# Altium schematic symbol library 单灯控制器.SCHLIB: 39 symbols
Pins are listed as number, name and electrical type; pins without a type are passive.

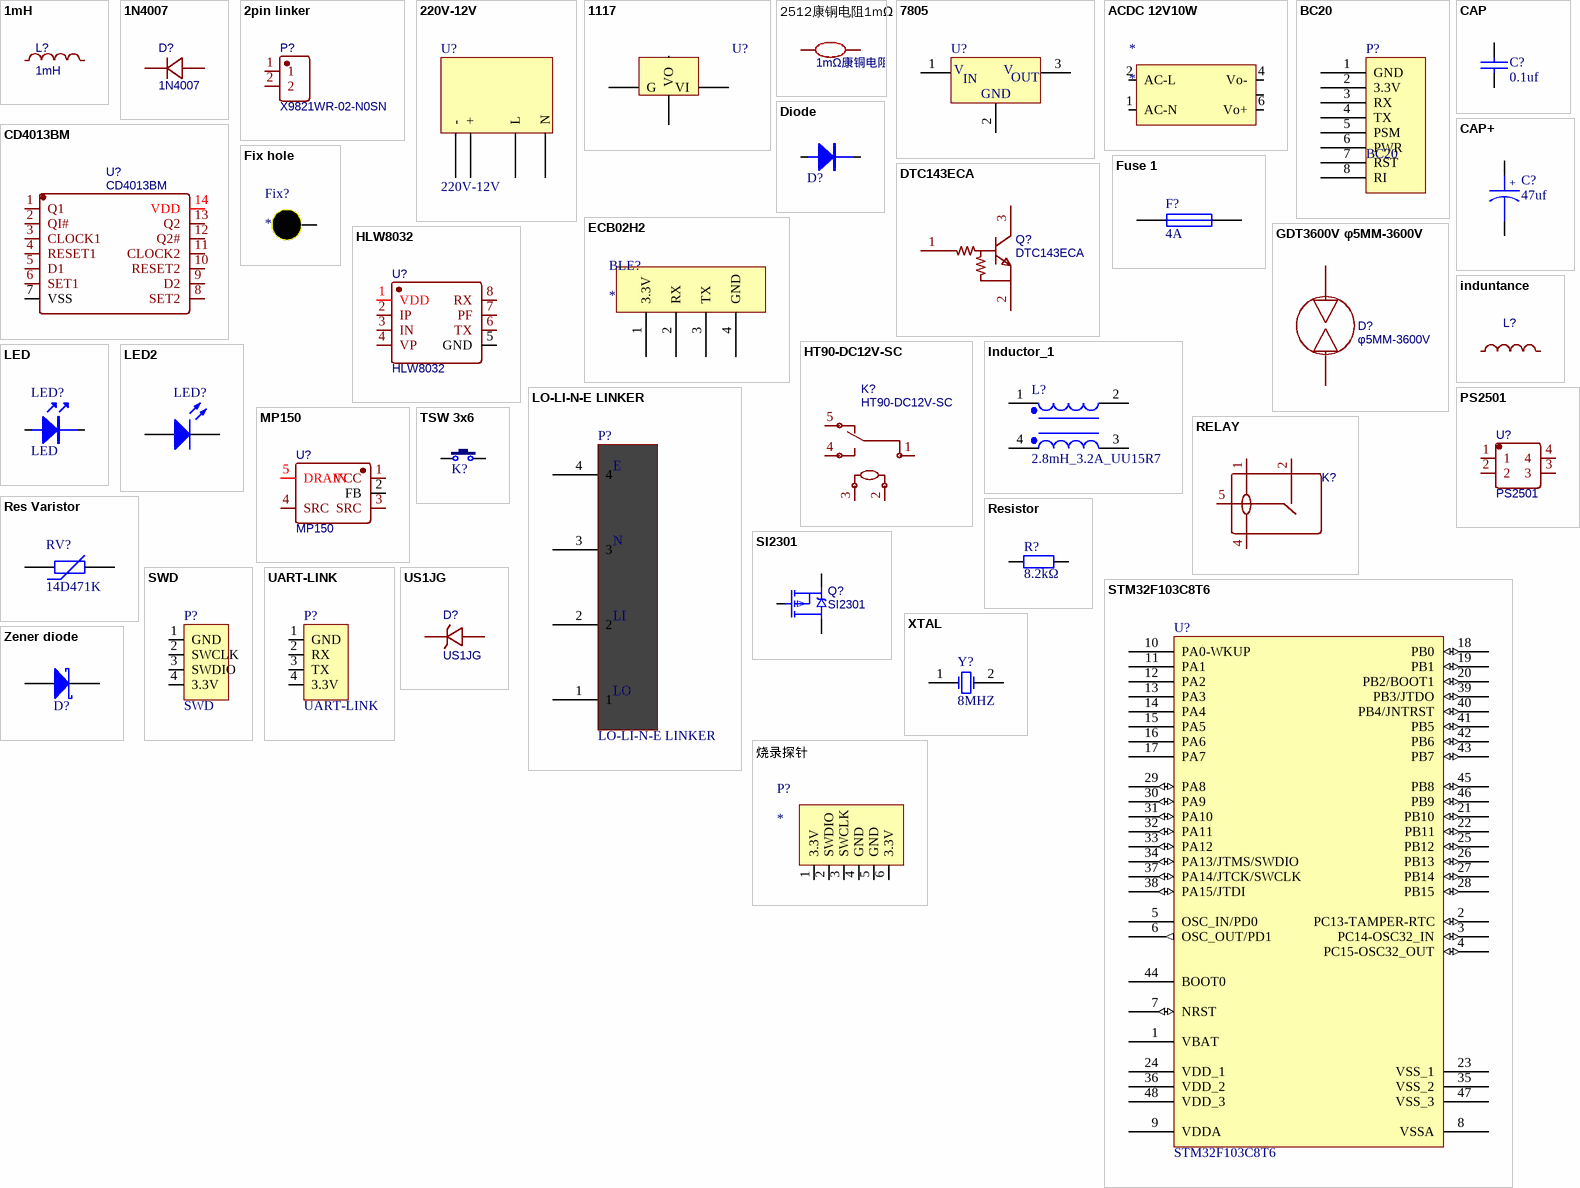
[diagram p0: symbols 1mH to 烧录探针]

## 1mH
designator L?
BOM_Manufacturer: FH; BOM_Manufacturer Part: VLU0810-102K; nameAlias: Inductance; BOM_Supplier: LCSC; BOM_Supplier Part: C72626; BOM_JLCPCB Part Class: Extended Part; spicePre: L; spiceSymbolName: VLU0810-102K
footprint 1MH 360MA
footprint 1MH色环电感
footprint 1MH 150MA
footprint cd75 1mh电感
pins: 1, 2

## 1N4007
designator D?
BOM_Manufacturer: TWGMC; Contributor: LCSC; BOM_Supplier: LCSC; BOM_Supplier Part: C727081; BOM_Manufacturer Part: 1N4007; BOM_JLCPCB Part Class: Extended Part; spicePre: D; spiceSymbolName: 1N4007_C727081
footprint 1N4007
pins: 1 K, 2 A

## 2pin linker
designator P?, comment X9821WR-02-N0SN
BOM_Manufacturer: XKB Enterprise; Contributor: LCSC; BOM_Supplier: LCSC; BOM_Supplier Part: C519002; BOM_Manufacturer Part: X9821WR-02-N0SN; BOM_JLCPCB Part Class: Extended Part; spicePre: C; spiceSymbolName: X9821WR-02-N0SN
footprint PWM输出底座
pins: 1, 2

## 220V-12V
designator U?
footprint AC-DC12V-5w
pins: 1 -, 2 +, 3 L, 4 N

## 1117
designator U?  (value not drawn)
三端稳压器1117
footprint SOT223
pins: 1 G, 2 VO, 3 VI, 4 G

## 2512康铜电阻1mΩ
designator RK?, comment 1mΩ康铜电阻
BOM_Manufacturer: YAGEO; BOM_Manufacturer Part: PA2512FKE7T0R001E; Contributor: LCSC; BOM_Supplier: LCSC; BOM_Supplier Part: C728297; spicePre: R; spiceSymbolName: PA2512FKE7T0R001E
footprint R2512 - 康铜
pins: 1, 2

## 7805
designator U?  (value not drawn)
三端稳压器7805
footprint TO-252
pins: 1 VIN, 2 GND, 3 VOUT
text: V; IN; OUT

## ACDC 12V10W
designator *
footprint AC-DC 12V10W
pins: 1 AC-N, 2 AC-L, 4 Vo-, 5, 6 Vo+

## BC20
designator P?
BC20单灯控制器特供版
footprint NB BC20
pins: 1 GND, 2 3.3V, 3 RX, 4 TX, 5 PSM, 6 PWR, 7 RST, 8 RI

## CAP
designator C?, comment value 0.1uf  (hidden comment: Capacitor)
footprint 0805C
footprint 0603C
footprint 1206C
footprint 0.22uf安规电容CAP-TH_L18.0-W6.0-P15.00-D1.2
footprint X2 安规电容 22nf
footprint 4.7NF直插瓷片电容
footprint CAP-TH_L13.0-W6.0-P10.0-D0.6 (0.1UF安规电容X2)
pins: 1, 2

## CAP+
designator C?, comment value 47uf  (hidden comment: Capacitor)
footprint RB.1/.2
footprint RB.2/.4
footprint RB.3/.6
footprint RB.4/.8
footprint RB.1/.3
footprint CAP-TH_BD5.0-P2.00-D0.8-FD (10uf 25v)
footprint CAP-TH_BD8.0-P3.50-D0.6-FD (470uf 10V)
footprint 100uf6.3v钽电容 - duplicate
footprint 10uf 10v钽电容CAP-SMD_L3.2-W1.6
footprint CAP-TH_BD5.0-P2.00-D0.8-FD - duplicate (100uf 10v 电解电容)
pins: 1, 2
text: +

## CD4013BM
designator U?
BOM_Manufacturer: Texas Instruments; Contributor: LCSC; BOM_Supplier: LCSC; BOM_Supplier Part: C347580; BOM_Manufacturer Part: CD4013BM; BOM_JLCPCB Part Class: Extended Part; spicePre: U; spiceSymbolName: CD4013BM
footprint CD4013 (双路D触发器)
pins: 1 Q1, 2 QI#, 3 CLOCK1, 4 RESET1, 5 D1, 6 SET1, 7 VSS, 8 SET2, 9 D2, 10 RESET2, 11 CLOCK2, 12 Q2#, 13 Q2, 14 VDD

## Diode
designator D?
footprint DO-214AC(SMA)
pins: 1, 2

## DTC143ECA
designator Q?
BOM_Manufacturer: CJ江苏长电; Contributor: mengruisheng; spicePre: Q; spiceSymbolName: DTC143ECA; BOM_Manufacturer Part: DTC143ECA; BOM_Supplier: LCSC; BOM_Supplier Part: C13871
footprint SOT-23
pins: 1 B, 2 E, 3 C

## ECB02H2
designator BLE?
footprint BLE-ECB02H2
pins: 1 3.3V, 2 RX, 3 TX, 4 GND

## Fix hole
designator Fix?
footprint hole 3.5mm (3.5mm限位孔)
pins: 1

## Fuse 1
designator F?, comment 4A
Fuse; Published: 8-Jun-2000; LatestRevisionDate: 17-Jul-2002; LatestRevisionNote: Re-released for DXP Platform.; PackageReference: PIN-W2/E2.8; Publisher: Altium Limited; PackageDescription: Thru-Hole; 2 Leads
simulation model FUSE (Spice Subcircuit)
footprint FUSE-T6.3A 250V
pins: 1, 2

## GDT3600V φ5MM-3600V
designator D?, comment φ5MM-3600V
BOM_Manufacturer: SANTE; Contributor: LCSC; BOM_Supplier: LCSC; BOM_Supplier Part: C476575; BOM_Manufacturer Part: φ5MM-3600V; BOM_JLCPCB Part Class: Extended Part; spicePre: D; spiceSymbolName: φ5MM-3600V
footprint GDT3600V DIO-DT-TH_BD5.5-L6.0-P10.00-D1.2 (气体放电管)
pins: 1, 2

## HLW8032
designator U?
BOM_Manufacturer: HILIWI; BOM_Supplier: LCSC; BOM_Manufacturer Part: HLW8032; BOM_Supplier Part: C128023; BOM_JLCPCB Part Class: Extended Part; spicePre: U; spiceSymbolName: HLW8032
footprint SOP8_150
pins: 1 VDD, 2 IP, 3 IN, 4 VP, 5 GND, 6 TX, 7 PF, 8 RX

## HT90-DC12V-SC
designator K?
BOM_Manufacturer: HTV; Contributor: LCSC; BOM_Supplier: LCSC; BOM_Supplier Part: C125678; BOM_Manufacturer Part: HT90-DC12V-SC; BOM_JLCPCB Part Class: Extended Part; spicePre: K; spiceSymbolName: HT90-DC12V-SC
footprint RELAY-TH_HT90-DCX-XXCXX
pins: 1, 2, 3, 4, 5

## Inductor_1
designator L?, comment 2.8mH_3.2A_UU15R7
Value: 10mH; Published: 24-Mar-1999; LatestRevisionDate: 17-Jul-2002; LatestRevisionNote: Re-released for DXP Platform.; PackageReference: DIODE_SMC; Publisher: Altium Limited; PackageDescription: Diode; 2 Leads
footprint DIODE_SMC (Diode; 2 Leads)
signal-integrity model Inductor Iron Dot
footprint 共模电感IND-TH_4P-L17.0-W9.6-P10.00-S5.0-D0.5
footprint 共模电感u9.8
pins: 1, 2, 3, 4

## induntance
designator L?
BOM_Manufacturer: Sunlord; BOM_Manufacturer Part: MCL2012S2R2MT; nameAlias: Inductance; BOM_Supplier: LCSC; BOM_Supplier Part: C95976; BOM_JLCPCB Part Class: Extended Part; spicePre: L; spiceSymbolName: MCL2012S2R2MT
footprint L0805
pins: 1, 2

## LED
designator LED?
footprint 0603-LED
pins: 1, 2

## LED2
designator LED?
Typical RED, GREEN, YELLOW, AMBER GaAs LED; Published: 8-Jun-2000; LatestRevisionDate: 17-Jul-2002; LatestRevisionNote: Re-released for DXP Platform.; PackageVersion: Feb-2002; PackageReference: 3.2X1.6X1.1; Publisher: Altium Limited; PackageDescription: SM LED; 2 Flat Leads
footprint 3.2X1.6X1.1 (SMT LED; 2 Flat Leads)
simulation model LED2 (Diode)
footprint 0603-LED
pins: 1 A, 2 K

## LO-LI-N-E LINKER
designator P?
footprint 5.08 LINKER (5.08MM间距接线端子)
pins: 1, 2, 3, 4
text: E; N; LI; LO

## MP150
designator U?
BOM_Manufacturer: Jiangsu RUNIC Tech; BOM_Manufacturer Part: RS331XF; Contributor: LCSC; BOM_Supplier: LCSC; BOM_Supplier Part: C783423; BOM_JLCPCB Part Class: Extended Part; spicePre: U; spiceSymbolName: RS331XF
footprint SOT-23-5_L3.0-W1.7-P0.95-LS2.8-BL
pins: 1 VCC, 2 FB, 3 SRC, 4 SRC, 5 DRAIN

## PS2501
designator U?
BOM_Manufacturer: Youtai Semiconductor Co., Ltd.; Contributor: LCSC; BOM_Supplier: LCSC; BOM_Supplier Part: C364144; BOM_Manufacturer Part: PS2501; BOM_JLCPCB Part Class: Extended Part; spicePre: U; spiceSymbolName: PS2501
footprint PS2501
footprint PS2501-S
pins: 1, 2, 3, 4

## RELAY
designator K?, comment NT73-2A10DC12V0.36  (value not drawn)
BOM_Manufacturer: Ningbo Forward Relay Corp; Contributor: LCSC; BOM_Supplier: LCSC; BOM_Supplier Part: C165867; BOM_Manufacturer Part: NT73-2A10DC12V0.36; BOM_JLCPCB Part Class: Extended Part; spicePre: K; spiceSymbolName: NT73-2A10DC12V0.36
footprint RELAY-TH_NT73C-2XAXXXX
pins: 1, 2, 4, 5

## Res Varistor
designator RV?, comment 14D471K
Varistor (Voltage-Sensitive Resistor); Published: 24-Mar-1999; LatestRevisionDate: 29-May-2009; LatestRevisionNote: IPC-7351 Footprint Added.; PackageVersion: Mar-2003; PackageReference: 6-0805; Publisher: Altium Limited; PackageDescription: Chip Resistor 0805 Case Size; Code_IPC: RESC2012
footprint 6-0805_N (Chip Resistor, Body 2.0x1.2mm, IPC Medium Density)
footprint 6-0805_L (Chip Resistor, Body 2.0x1.2mm, IPC High Density)
footprint 6-0805_M (Chip Resistor, Body 2.0x1.2mm, IPC Low Density)
footprint 压敏电阻14d471k (RES-TH_L14.0-W4.9-P7.50-D0.8-S4.90)
footprint 压敏电阻14DXXXK (压敏电阻)
pins: 1, 2

## Resistor
designator R?  value 8.2kΩ  (hidden comment: Resistor)
Resistor SMD - IEC symbol version; LatestRevisionDate: 27-Jul-20  -  Semtech
footprint 0603R
footprint 0805R
footprint 1206R
footprint 3216R
footprint RG (碳膜电阻立式)
pins: 1, 2

## SI2301
designator Q?
BOM_Manufacturer: Hottech(合科泰); Contributor: mengruisheng; spicePre: Q; spiceSymbolName: PMOS; BOM_Manufacturer Part: SI2301; BOM_Supplier: LCSC; BOM_Supplier Part: C181086
footprint SI2301
pins: 1 G, 2 S, 3 D

## STM32F103C8T6
designator U?
Flaah:64/RAM:20/IO:36; BOM名称: 32位STM单片机; 版权归属: 源创客; 学习资源: www.ooocke.com
footprint LQFP48 7X7_N (48脚，体宽7x7mm，脚距0.5mm)
footprint LQFP48 7X7_M (48脚，体宽7x7mm，脚距0.5mm)
footprint LQFP48 7X7_L (48脚，体宽7x7mm，脚距0.5mm)
footprint LQFP48 7X7_M (48脚，体宽7x7mm，脚距0.5mm      淘宝ID:黄晶宝石)
pins: 1 VBAT (power), 2 PC13-TAMPER-RTC (io), 3 PC14-OSC32_IN (io), 4 PC15-OSC32_OUT (io), 5 OSC_IN/PD0, 6 OSC_OUT/PD1 (out), 7 NRST (io), 8 VSSA (power), 9 VDDA (power), 10 PA0-WKUP, 11 PA1, 12 PA2, 13 PA3, 14 PA4, 15 PA5, 16 PA6, 17 PA7, 18 PB0 (io), 19 PB1 (io), 20 PB2/BOOT1 (io), 21 PB10 (io), 22 PB11 (io), 23 VSS_1 (power), 24 VDD_1 (power), 25 PB12 (io), 26 PB13 (io), 27 PB14 (io), 28 PB15 (io), 29 PA8 (io), 30 PA9 (io), 31 PA10 (io), 32 PA11 (io), 33 PA12 (io), 34 PA13/JTMS/SWDIO (io), 35 VSS_2 (power), 36 VDD_2 (power), 37 PA14/JTCK/SWCLK (io), 38 PA15/JTDI (io), 39 PB3/JTDO (io), 40 PB4/JNTRST (io), 41 PB5 (io), 42 PB6 (io), 43 PB7 (io), 44 BOOT0, 45 PB8 (io), 46 PB9 (io), 47 VSS_3 (power), 48 VDD_3 (power)

## SWD
designator P?
footprint SWD (Connector; Header; 10x2 Position)
pins: 1 GND, 2 SWCLK, 3 SWDIO, 4 3.3V

## TSW 3x6
designator K?, comment 3x6x5  (value not drawn)
3x6轻触开关; 版权归属: 源创客; BOM名称: 3x6轻触开关; 学习资源: www.ooocke.com
footprint TSW SMD-3*6*2.5 (3*6*2.5mm)
footprint TSW DIP-3*6*5_V (侧按轻触开关 3*6*5mm)
footprint TSW DIP-3*6*4.3 (3*6*4.3mm)
footprint TSW DIP-3*6*4.3_V (侧按轻触开关 3*6*4.3mm)
footprint TSW DIP-3*6*5 (3*6*5mm)
footprint TSW SMD-3*6*4.3 (3*6*4.3mm)
footprint TSW SMD-3*6*5 (3*6*5mm)
pins: 1, 2

## UART-LINK
designator P?
footprint UART-LINK (Connector; Header; 10x2 Position)
pins: 1 GND, 2 RX, 3 TX, 4 3.3V

## US1JG
designator D?
BOM_Manufacturer: MDD（Microdiode Electronics）; Contributor: LCSC; BOM_Supplier: LCSC; BOM_Supplier Part: C490430; BOM_Manufacturer Part: US1JG; BOM_JLCPCB Part Class: Extended Part; spicePre: D; spiceSymbolName: US1JG
footprint US1JG
pins: 1 C, 2 A

## XTAL
designator Y?, comment 8MHZ
Crystal Oscillator; Published: 8-Jun-2000; LatestRevisionDate: 17-Jul-2002; LatestRevisionNote: Re-released for DXP Platform.; PackageReference: R38; Publisher: Altium Limited; PackageDescription: Crystal, Thru-Hole; 2 Leads; Body 3.1 x 8.2 mm (Dia.xH)
footprint XTAL1
pins: 1 OSC1, 2 OSC2

## Zener diode
designator D?, comment D Schottky single  (value not drawn)
Zener diode
footprint SOD123 (SOD123; Chip Diode; Body  2.7 x 1.6 mm (LxW typ))
pins: 1 +, 2 -

## 烧录探针
designator P?
footprint 烧录探针 (Connector; Header; 10x2 Position)
pins: 1 3.3V, 2 SWDIO, 3 SWCLK, 4 GND, 5 GND, 6 3.3V